# Altium footprint library Transistors.PcbLib: 33 footprints (part 1 of 3)
Each footprint in its own frame and in the unit in brackets; x right, y up, seen from the top. Pads: shape width x height; smd on the part's side, far side on the other; paste and mask are expansions set on the pad; w line width, h text height; cw(c..) or ccw(c..) is an arc to the next point about the centre after c.
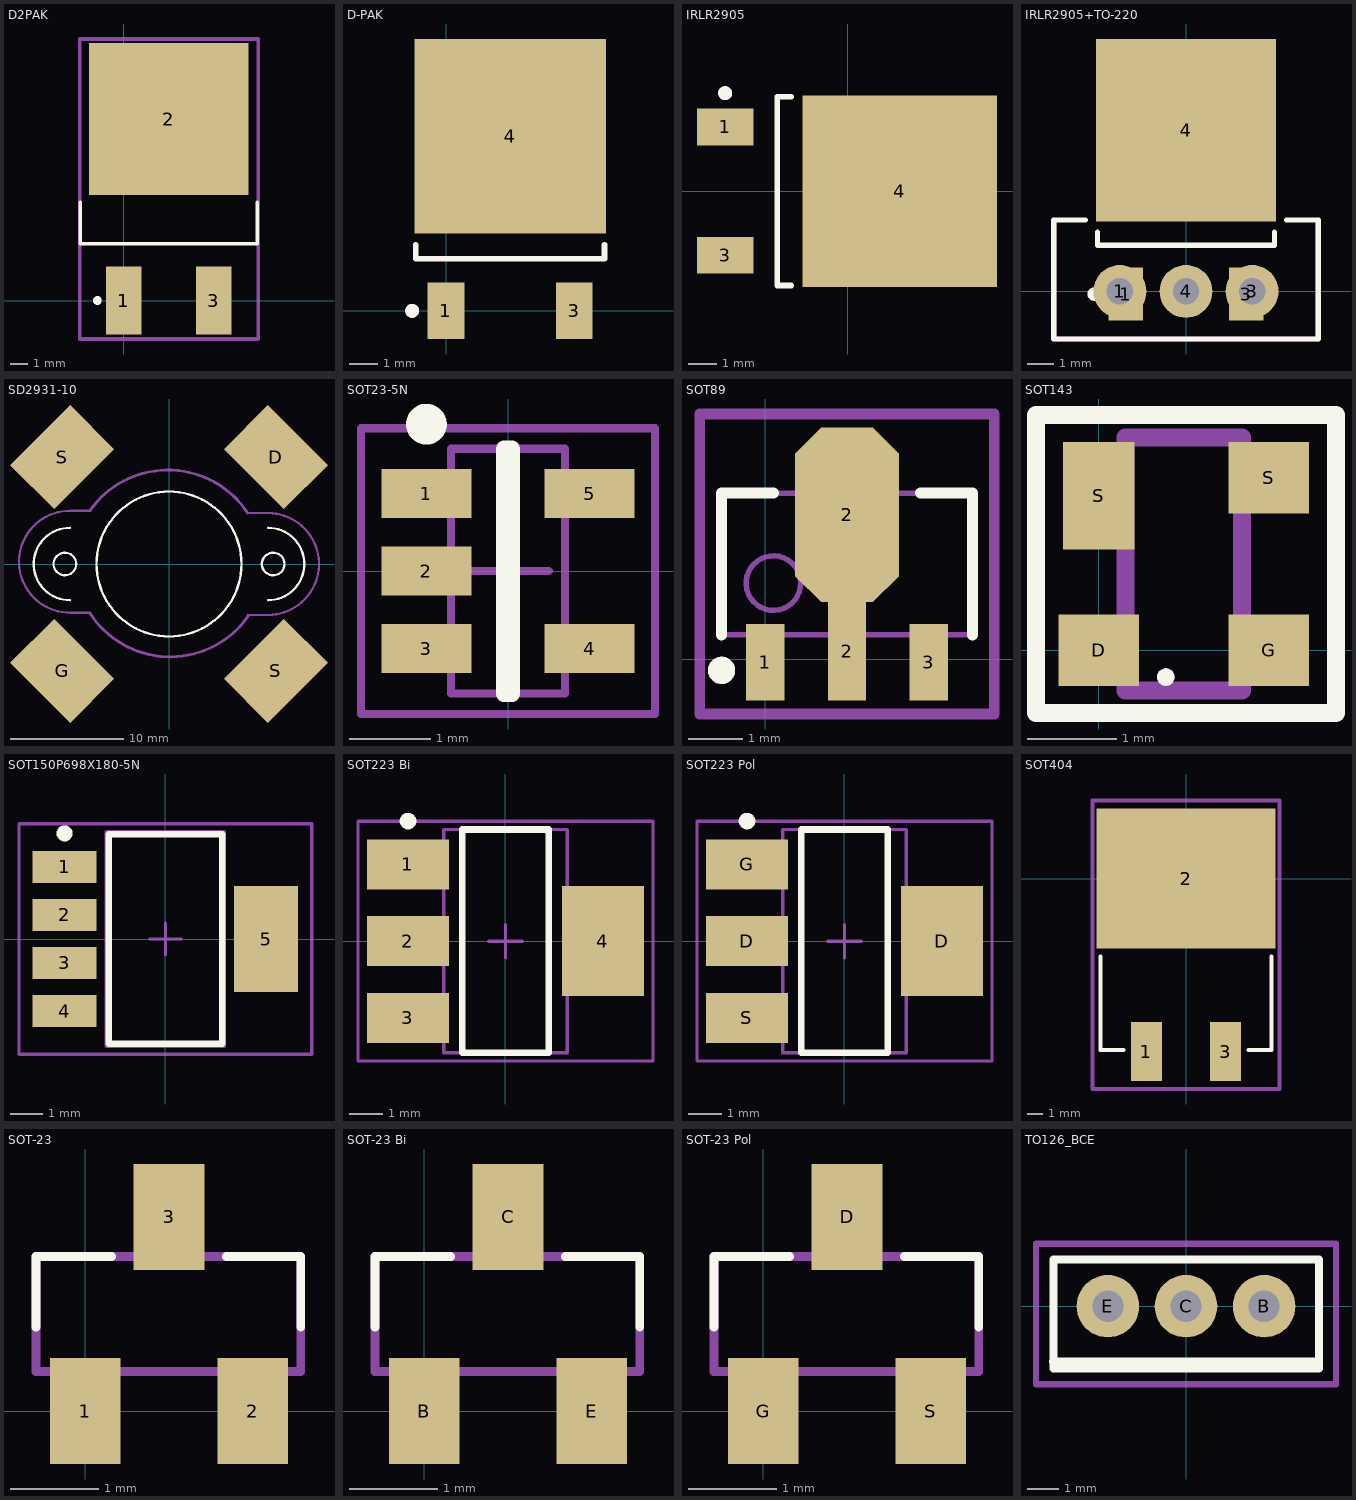
[diagram p0: the footprints below, top view; thin cyan lines are the x and y axes]

## D2PAK [mm]
pads (3):
  rect 2x3.85 smd: 1(0,0) 3(5.08,0)
  rect 9x8.6 smd: 2(2.54,10.25)
Top Overlay:
  circle w0.25: c-1.5,0 r0.125
  lines w0.2: -2.46,5.55 -2.46,3.2 7.54,3.2 7.54,5.55
TopAssy:
  lines w0.2: -2.5,-2.175 -2.5,14.775 7.6,14.775 7.6,-2.175 -2.5,-2.175
3D body "SW3dPS-DPAK.STEP": height 4.98, standoff -0.03, extent -2.54,-1.616 7.62,13.648

## D-PAK [mm] "D-PAK, 3-Pads, Body 6,2x6,7mm (max), IPC Medium Density"
height 2.38
pads (3):
  rect 1.3x2 smd: 1(-0.005,0) 3(4.555,0)
  rect 6.8x6.9 smd: 4(2.275,6.2)
Top Overlay:
  circle w0.25: c-1.205,0 r0.125
  lines w0.2: -1.075,2.35 -1.075,1.85 5.625,1.85 5.625,2.35
3D body "User Library-D-PAK.STEP": height 2.3, standoff 0, extent -0.996,-0.25 5.497,9.25

## IRLR2905 [mm] "D-PAK, 3-Pads, Body 6,2x6,7mm (max), IPC Medium Density"
height 2.38
pads (3):
  rect 2x1.3 smd: 1(-4.35,2.28) 3(-4.35,-2.28)
  rect 6.9x6.8 smd: 4(1.85,0)
Top Overlay:
  circle w0.25: c-4.35,3.48 r0.125
  lines w0.2: -2,-3.35 -2.5,-3.35 -2.5,3.35 -2,3.35

## IRLR2905+TO-220 [mm] "D-PAK, 3-Pads, Body 6,2x6,7mm (max), IPC Medium Density"
height 2.38
pads (6):
  round 2 hole 1: 1(-2.5,0) 3(2.5,0) 4(0,0)
  rect 1.3x2 smd: 1(-2.28,-0.104) 3(2.28,-0.104)
  rect 6.8x6.9 smd: 4(0,6.096)
Top Overlay:
  circle w0.25: c-3.48,-0.104 r0.125
  lines w0.2: -3.8,2.7 -5,2.7 -5,-1.8 5,-1.8 5,2.7 3.8,2.7 ; -3.35,2.246 -3.35,1.746 3.35,1.746 3.35,2.246
TopAssy:
  lines w0.2: -5,2.7 -5,-1.8 5,-1.8 5,2.7
3D body "User Library-IRFZ44N Transistors MOSFET N-Channel TO-220AB.STEP": height 20.36, standoff -12.52, extent -5.08,-1.5 5.08,2.705

## SD2931-10 [mm]
pads (4):
  rect 5.5x7.5 smd rot 45: D(9.44,9.44) G(-9.44,-9.44)
  rect 5.5x7.5 smd rot 135: S(-9.44,9.44) S(9.44,-9.44)
Top Overlay:
  circle w0.2: c0,0 r6.4
  circle w0.2: c9.2,0 r1
  circle w0.2: c-9.2,0 r1
  lines w0.2: -8.75,-3.2 cw(c-8.75,0) -8.75,3.2 ; 8.75,-3.2 ccw(c8.75,0) 8.75,3.2
Mechanical 16:
  lines w0.2: -7,-4.3 -8.75,-4.3 cw(c-8.75,0.2) -8.75,4.7 -7,4.7 ; 6.95,-4.5 8.7,-4.5 ; 6.95,4.5 8.7,4.5 ; 8.75,-4.5 ccw(c8.75,0) 8.75,4.5
  lines w0.254: -7,4.7 cw(c-0.093,-0.125) 6.95,4.5 ; -6.95,-4.4 ccw(c0.093,0.225) 7,-4.6

## SOT23-5N [mm] "SOT23, 5-Leads, Body 3,0x2,6mm (max), Pitch 0,95mm, IPC Medium Density"
height 1.1
pads (5):
  rect 1.1x0.6 smd: 1(-1,0.95) 2(-1,0) 3(-1,-0.95) 4(1,-0.95) 5(1,0.95)
Top Overlay:
  circle w0.25: c-1,1.8 r0.125
  lines w0.2: -0.05,-1.5 -0.05,1.5 0.05,1.5 0.05,-1.5 -0.05,-1.5
Mechanical 13:
  lines w0.1: -0.7,-1.5 0.7,-1.5 0.7,1.5 -0.7,1.5 -0.7,-1.5
Mechanical 15:
  lines w0.1: -0.5,0 0.5,0 ; 0,-0.5 0,0.5 ; -1.8,-1.75 1.8,-1.75 1.8,1.75 -1.8,1.75 -1.8,-1.75
3D body: height 1.1, standoff 0.05, extent -0.7,-1.5 0.7,1.5

## SOT89 [mm] "SOT89, 3-Leads, Body 4,5x2,4mm (max), Pitch 1,50mm, Lead Span 4,1mm, IPC Medium Density"
height 1.6
pads (4):
  rect 0.7x1.4 smd: 1(0,-0.05) 3(3,-0.05)
  rect 0.7x1.8 smd: 2(1.5,0.15)
  oct 1.9x3.2 smd: 2(1.5,2.65)
Top Overlay:
  circle w0.25: c-0.8,-0.2 r0.125
  lines w0.2: -0.8,0.45 -0.8,3.05 0.15,3.05 ; 2.85,3.05 3.8,3.05 3.8,0.45
TopAssy:
  lines w0.2: -1.2,-1 -1.2,4.5 4.2,4.5 4.2,-1 -1.2,-1
Mechanical 13:
  circle w0.1: c0.15,1.4 r0.5
  lines w0.1: -0.8,0.45 -0.8,3.05 3.8,3.05 3.8,0.45 -0.8,0.45
3D body "User Library-SOT89-3.STEP": height 1.54, standoff 0, extent -0.75,-0.5 3.75,3.75

## SOT143 [mm] "SOT143, 4-Leads, Body 2,92x2,37mm, Pitch 1,90mm, IPC Medium Density"
height 1.2
pads (5):
  rect 0.9x0.8 smd: D(0,0) G(1.9,0) S(1.9,1.925)
  rect 0.8x1.2 smd: S(0,1.725)
  round 0.2 on Top Overlay: ""(0.75,-0.3)
Top Overlay:
  lines w0.2: -0.7,-0.7 -0.7,2.625 2.65,2.625 2.65,-0.7 -0.7,-0.7
TopAssy:
  lines w0.2: 0.3,-0.45 1.6,-0.45 1.6,2.375 0.3,2.375 0.3,-0.45
3D body "User Library-SOT-143.STEP": height 1, standoff 0, extent -0.21,-0.5 2.21,2.42

## SOT150P698X180-5N [mm] "SOT223, 5-Leads, Body 6,7x7,0mm (max), Pitch 1,50mm, IPC Medium Density"
height 1.8
pads (5):
  rect 2x1 smd: 1(-3.15,2.25) 2(-3.15,0.75) 3(-3.15,-0.75) 4(-3.15,-2.25)
  rect 2x3.3 smd: 5(3.15,0)
Top Overlay:
  circle w0.25: c-3.15,3.3 r0.125
  lines w0.2: -1.775,-3.275 -1.775,3.275 1.775,3.275 1.775,-3.275 -1.775,-3.275
Mechanical 13:
  lines w0.1: -1.85,-3.35 -1.85,3.35 1.85,3.35 1.85,-3.35 -1.85,-3.35
Mechanical 15:
  lines w0.1: -0.5,0 0.5,0 ; 0,-0.5 0,0.5 ; -4.575,-3.6 -4.575,3.6 4.575,3.6 4.575,-3.6 -4.575,-3.6
3D body: height 1.8, standoff 0.02, extent -1.85,-3.35 1.85,3.35

## SOT223 Bi [mm] "SOT223, 4-Leads, Body 6,7x7,3mm (max), Pitch 2,30mm, IPC Medium Density"
height 1.8
pads (4):
  rect 2.45x1.5 smd: 1(-2.925,2.3) 2(-2.925,0) 3(-2.925,-2.3)
  rect 2.45x3.3 smd: 4(2.925,0)
Top Overlay:
  circle w0.25: c-2.925,3.6 r0.125
  lines w0.2: -1.3,-3.35 1.3,-3.35 1.3,3.35 -1.3,3.35 -1.3,-3.35
Mechanical 13:
  lines w0.1: -1.85,-3.35 1.85,-3.35 1.85,3.35 -1.85,3.35 -1.85,-3.35
Mechanical 15:
  lines w0.1: -0.5,0 0.5,0 ; 0,-0.5 0,0.5 ; -4.425,-3.6 4.425,-3.6 4.425,3.6 -4.425,3.6 -4.425,-3.6
3D body: height 1.8, standoff 0.02, extent -1.85,-3.35 1.85,3.35

## SOT223 Pol [mm] "SOT223, 4-Leads, Body 6,7x7,3mm (max), Pitch 2,30mm, IPC Medium Density"
height 1.8
pads (4):
  rect 2.45x1.5 smd: D(-2.925,0) G(-2.925,2.3) S(-2.925,-2.3)
  rect 2.45x3.3 smd: D(2.925,0)
Top Overlay:
  circle w0.25: c-2.925,3.6 r0.125
  lines w0.2: -1.3,-3.35 -1.3,3.35 1.3,3.35 1.3,-3.35 -1.3,-3.35
Mechanical 13:
  lines w0.1: -1.85,-3.35 -1.85,3.35 1.85,3.35 1.85,-3.35 -1.85,-3.35
Mechanical 15:
  lines w0.1: -0.5,0 0.5,0 ; 0,-0.5 0,0.5 ; -4.425,-3.6 -4.425,3.6 4.425,3.6 4.425,-3.6 -4.425,-3.6
3D body: height 1.8, standoff 0.02, extent -1.85,-3.35 1.85,3.35

## SOT404 [mm]
pads (3):
  rect 2x3.8 smd: 1(-2.54,-11.1) 3(2.54,-11.1)
  rect 11.5x9 smd: 2(0,0)
Top Overlay:
  lines w0.254: -5.5,-5 -5.5,-11 -4,-11 ; 4,-11 5.5,-11 5.5,-5
Mechanical 15:
  lines w0.254: -6,-13.5 -6,5 6,5 6,-13.5 -6,-13.5

## SOT-23 [mm] "SOT23, 3-Leads, Body 3,0x2,6mm (max), Pitch 0,95mm, IPC Medium Density"
height 1.1
pads (3):
  rect 0.8x1.2 smd: 1(0,0) 2(1.9,0) 3(0.95,2.2)
Top Overlay:
  lines w0.1: -0.556,0.95 -0.556,1.75 0.3,1.75 ; 1.6,1.75 2.444,1.75 2.444,0.95
TopAssy:
  lines w0.1: -0.556,0.45 2.444,0.45 2.444,1.75 -0.556,1.75 -0.556,0.45
3D body "User Library-SOT23-3.STEP": height 1.3, standoff 0, extent -0.506,-0.3 2.394,2.5

## SOT-23 Bi [mm] "SOT23, 3-Leads, Body 3,0x2,6mm (max), Pitch 0,95mm, IPC Medium Density"
height 1.1
pads (3):
  rect 0.8x1.2 smd: B(0,0) C(0.95,2.2) E(1.9,0)
Top Overlay:
  lines w0.1: -0.556,0.95 -0.556,1.75 0.3,1.75 ; 1.6,1.75 2.444,1.75 2.444,0.95
TopAssy:
  lines w0.1: -0.556,0.45 2.444,0.45 2.444,1.75 -0.556,1.75 -0.556,0.45
3D body "User Library-SOT23-3.STEP": height 1.3, standoff 0, extent -0.506,-0.3 2.394,2.5

## SOT-23 Pol [mm] "SOT23, 3-Leads, Body 3,0x2,6mm (max), Pitch 0,95mm, IPC Medium Density"
height 1.1
pads (3):
  rect 0.8x1.2 smd: D(0.95,2.2) G(0,0) S(1.9,0)
Top Overlay:
  lines w0.1: -0.556,0.95 -0.556,1.75 0.3,1.75 ; 1.6,1.75 2.444,1.75 2.444,0.95
TopAssy:
  lines w0.1: -0.556,0.45 -0.556,1.75 2.444,1.75 2.444,0.45 -0.556,0.45
3D body "User Library-SOT23-3.STEP": height 1.3, standoff 0, extent -0.506,-0.3 2.394,2.5

## TO126_BCE [mm]
pads (3):
  round 2 hole 1: B(2.5,0) C(0,0) E(-2.5,0)
Top Overlay:
  lines w0.254: -4.25,-1.771 4.25,-1.771 ; -4.24,-2 -4.24,1.5 4.26,1.5 4.26,-2 -4.24,-2
Mechanical 15:
  lines w0.2: -4.8,-2.5 -4.8,2 4.8,2 4.8,-2.5 -4.8,-2.5